# EAGLE library part MUX/DEMUX-CD4052BPWR(TSSOP16) (library Seeed-OPL-ic)
310070052
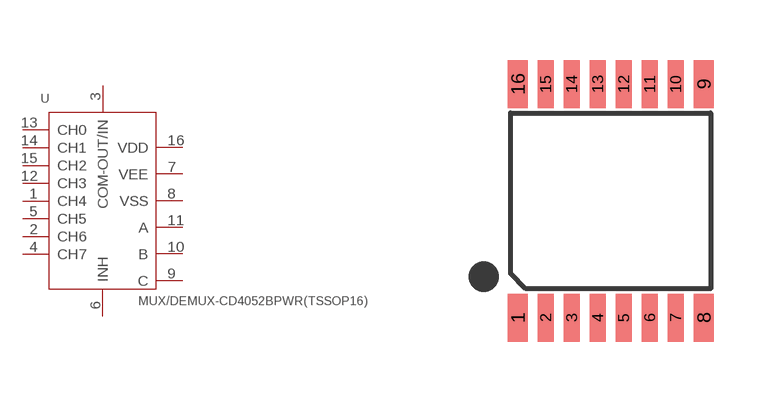
[diagram p151: symbol with the pads of TSSOP16-0.65-5X4.4MM; footprint TSSOP16-0.65-5X4.4MM]

Designator prefix U

## MUX/DEMUX-CD4052BPWR(TSSOP16) (MPN: CD4052BPWR; VALUE: CD4052BPWR-TSSOP16)  [TSSOP16-0.65-5X4.4MM]
1  CH4
2  CH6
3  COM-OUT/IN  in
4  CH7
5  CH5
6  INH  in
7  VEE  in
8  VSS  sup
9  C  in
10  B
11  A
12  CH3
13  CH0
14  CH1
15  CH2
16  VDD  pwr

## Footprint TSSOP16-0.65-5X4.4MM (pad centres in mm)
TSOP16 thin small outline package
smd 0.5 x 1.2: 1 -2.325,-2.925; 8 2.325,-2.925; 9 2.325,2.925; 16 -2.325,2.925
smd 0.4 x 1.2: 2 -1.625,-2.925; 3 -0.975,-2.925; 4 -0.325,-2.925; 5 0.325,-2.925; 6 0.975,-2.925; 7 1.625,-2.925; 10 1.625,2.925; 11 0.975,2.925; 12 0.325,2.925; 13 -0.325,2.925; 14 -0.975,2.925; 15 -1.625,2.925